# Altium footprint library Switching_Voltage_Regulators.PcbLib: 4 footprints
Each footprint in its own frame and in the unit in brackets; x right, y up, seen from the top. Pads: shape width x height; smd on the part's side, far side on the other; paste and mask are expansions set on the pad; w line width, h text height; cw(c..) or ccw(c..) is an arc to the next point about the centre after c.
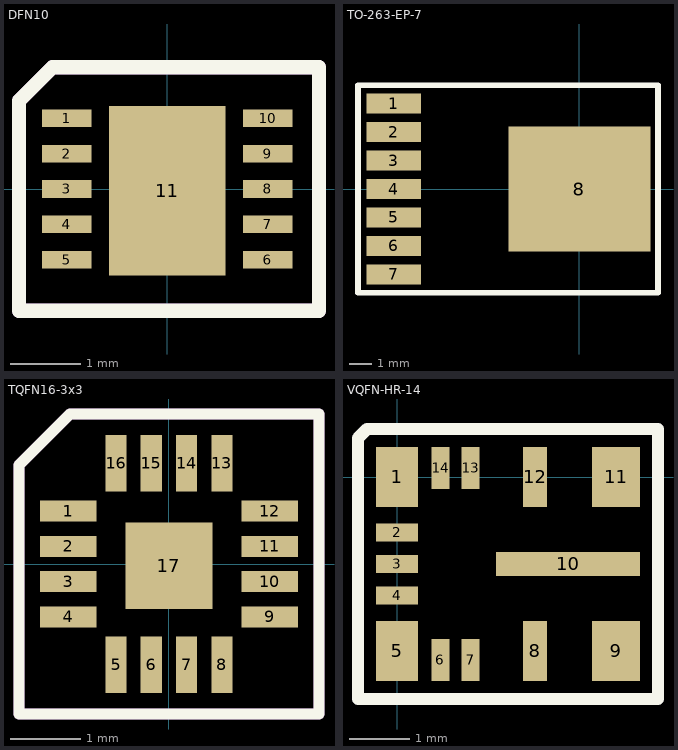
[diagram p0: the footprints below, top view; thin cyan lines are the x and y axes]

## DFN10 [mm]
pads (11):
  rect 0.7x0.25 smd: 1(-1.425,1) 2(-1.425,0.5) 3(-1.425,0) 4(-1.425,-0.5) 5(-1.425,-1) 6(1.425,-1) 7(1.425,-0.5) 8(1.425,0) 9(1.425,0.5) 10(1.425,1)
  rect 1.65x2.4 smd: 11(0,-0.025)
Top Overlay:
  lines w0.2: -2.1,-1.725 -2.1,1.25 -1.625,1.725 2.15,1.725 2.15,-1.725 -2.1,-1.725
Top Assembly:
  lines w0.2: -2.1,-1.725 -2.1,1.25 -1.625,1.725 2.15,1.725 2.15,-1.725 -2.1,-1.725
  text "'.Designator'" at -1.996,2.437 h1.52
Mechanical 15:
  lines w0.1: -0.3,0 0.3,0 ; 0,-0.3 0,0.3
  lines w0.2: -2.1,-1.725 -2.1,1.25 -1.625,1.725 2.15,1.725 2.15,-1.725 -2.1,-1.725
3D body "DFN10_cdo.step": height 0.8, standoff -0.05, extent -1.56,-1.55 1.56,1.55

## TO-263-EP-7 [mm]
pads (8):
  rect 2.41x0.91 smd: 1(-8.28,3.81) 2(-8.28,2.54) 3(-8.28,1.27) 4(-8.28,0) 5(-8.28,-1.27) 6(-8.28,-2.54) 7(-8.28,-3.81)
  rect 6.35x5.59 smd: 8(0,0)
Top Overlay:
  lines w0.254: -9.875,-4.625 -9.875,4.625 3.5,4.625 3.5,-4.625 -9.875,-4.625

## TQFN16-3x3 [mm]
pads (17):
  rect 0.8x0.3 smd: 1(-1.425,0.75) 2(-1.425,0.25) 3(-1.425,-0.25) 4(-1.425,-0.75) 9(1.425,-0.75) 10(1.425,-0.25) 11(1.425,0.25) 12(1.425,0.75)
  rect 0.3x0.8 smd: 5(-0.75,-1.425) 6(-0.25,-1.425) 7(0.25,-1.425) 8(0.75,-1.425) 13(0.75,1.425) 14(0.25,1.425) 15(-0.25,1.425) 16(-0.75,1.425)
  rect 1.23x1.23 smd: 17(0,-0.025)
Top Overlay:
  lines w0.153: -2.123,-2.125 2.125,-2.125 2.125,2.125 -1.4,2.125 -2.123,1.402 -2.123,-2.125
Top Assembly:
  lines w0.153: -2.123,-2.125 2.125,-2.125 2.125,2.125 -1.4,2.125 -2.123,1.402 -2.123,-2.125
  text "'.Designator'" at -2.321,2.937 h1.52
Mechanical 15:
  lines w0.1: -0.3,0 0.3,0 ; 0,-0.3 0,0.3
  lines w0.153: -2.123,-2.125 -2.123,1.402 -1.4,2.125 2.125,2.125 2.125,-2.125 -2.123,-2.125
3D body "TQFN16-3x3.step": height 0.81, standoff 0, extent -1.549,-1.549 1.549,1.549

## VQFN-HR-14 [mm]
pads (14):
  rect 0.7x1 smd: 1(0,0) 5(0,-2.9)
  rect 0.7x0.3 smd: 2(0,-0.925) 3(0,-1.45) 4(0,-1.975)
  rect 0.3x0.7 smd: 6(0.725,-3.05) 7(1.225,-3.05) 13(1.225,0.15) 14(0.725,0.15)
  rect 0.4x1 smd: 8(2.3,-2.9) 12(2.3,0)
  rect 0.8x1 smd: 9(3.65,-2.9) 11(3.65,0)
  rect 2.4x0.4 smd: 10(2.85,-1.45)
Top Overlay:
  lines w0.2: -0.65,-3.7 4.35,-3.7 4.35,0.8 -0.5,0.8 -0.65,0.65 -0.65,-3.7